# EAGLE library part LIS3DE_ITS13FV2SR (library pendulum_control_board)
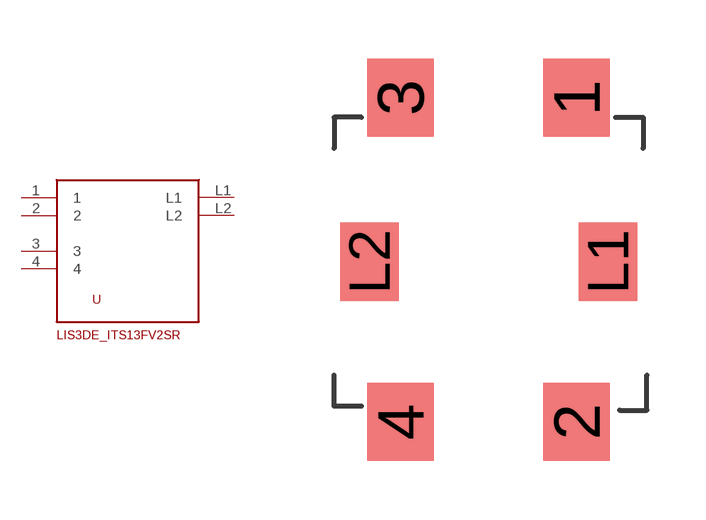
[diagram p3: symbol with the pads of LIS3DE_ITS13FV2SR; footprint LIS3DE_ITS13FV2SR]

Designator prefix -

## LIS3DE_ITS13FV2SR  [LIS3DE_ITS13FV2SR]
1  1
2  2
3  3
4  4
L1  L1
L2  L2

## Footprint LIS3DE_ITS13FV2SR (pad centres in mm)
smd 1.7 x 2: 1 2.5,3.7; 2 2.5,-4.6; 3 -2,3.7; 4 -2,-4.6
smd 1.5 x 2: L1 3.3,-0.5; L2 -2.8,-0.5